# Altium schematic symbol library SI705x.SchLib: 1 symbol
Pins are listed as number, name and electrical type; pins without a type are passive.

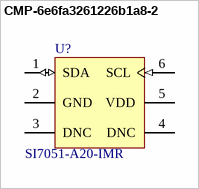
[diagram p0: symbol CMP-6e6fa3261226b1a8-2]

## CMP-6e6fa3261226b1a8-2
designator U?, comment SI7051-A20-IMR
Temperature Sensor tal, Local -40°C ~ 125°C 14 b 6-DFN (3x3); Octopart URL: https://octopart.com/si7051-a20-im-silicon+labs-71522607; RoHS: Compliant; Case/Package: 6-DFN; Manufacturer Part Number: SI7051-A20-IMR
footprint SON100P300X300X80-7N
pins: 1 SDA (io), 2 GND (power), 3 DNC, 4 DNC, 5 VDD (power), 6 SCL (in)